# EAGLE library part RFM12B (library mike-temp)
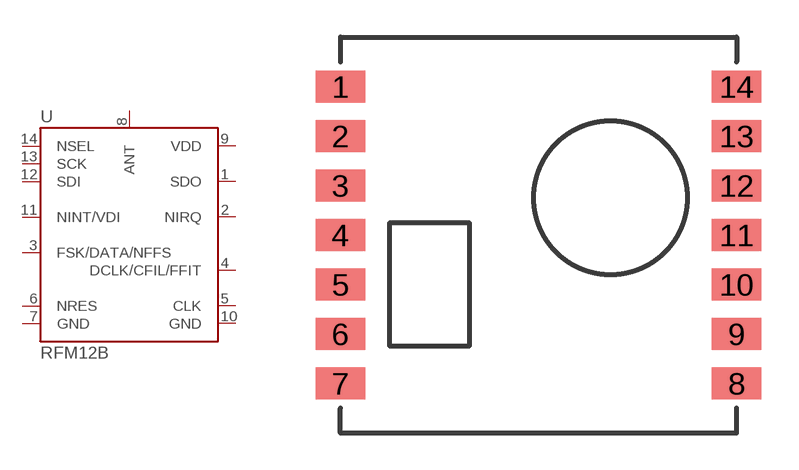
[diagram p40: symbol with the pads of RFM12B-XXX-S2; footprint RFM12B-XXX-S2]

Designator prefix U

## RFM12B-XXX-S2  [RFM12B-XXX-S2]
1  SDO  out
2  NIRQ  out
3  FSK/DATA/NFFS
4  DCLK/CFIL/FFIT
5  CLK  out
6  NRES
7  GND  pwr
8  ANT  pas
9  VDD  pwr
10  GND  pwr
11  NINT/VDI
12  SDI  in
13  SCK  in
14  NSEL  in

## Footprint RFM12B-XXX-S2 (pad centres in mm)
smd 2 x 1.3: 1 -8,6; 2 -8,4; 3 -8,2; 4 -8,0; 5 -8,-2; 6 -8,-4; 7 -8,-6; 8 8,-6; 9 8,-4; 10 8,-2; 11 8,0; 12 8,2; 13 8,4; 14 8,6